# Altium schematic symbol library Sensor_MAX6577_1.Schlib: 1 symbol
Pins are listed as number, name and electrical type; pins without a type are passive.

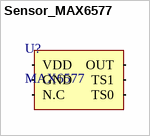
[diagram p0: symbol Sensor_MAX6577]

## Sensor_MAX6577
designator U?, comment MAX6577
Temperature sensor with frequency output; ComponentLink1Description: Datasheet; ComponentLink1URL: https://datasheets.maximintegrated.com/en/ds/MAX6576-MAX6577.pdf
footprint MAX6682 - SOT32 6P (SOT23, 6-Leads, Body 2.90x2.80mm, Pitch 0.95mm, IPC Medium Density)
pins: 1 VDD, 2 GND, 3 N.C, 4 TS0, 5 TS1, 6 OUT